# Altium footprint library LIBTP1.PcbLib: 3 footprints
Each footprint in its own frame and in the unit in brackets; x right, y up, seen from the top. Pads: shape width x height; smd on the part's side, far side on the other; paste and mask are expansions set on the pad; w line width, h text height; cw(c..) or ccw(c..) is an arc to the next point about the centre after c.
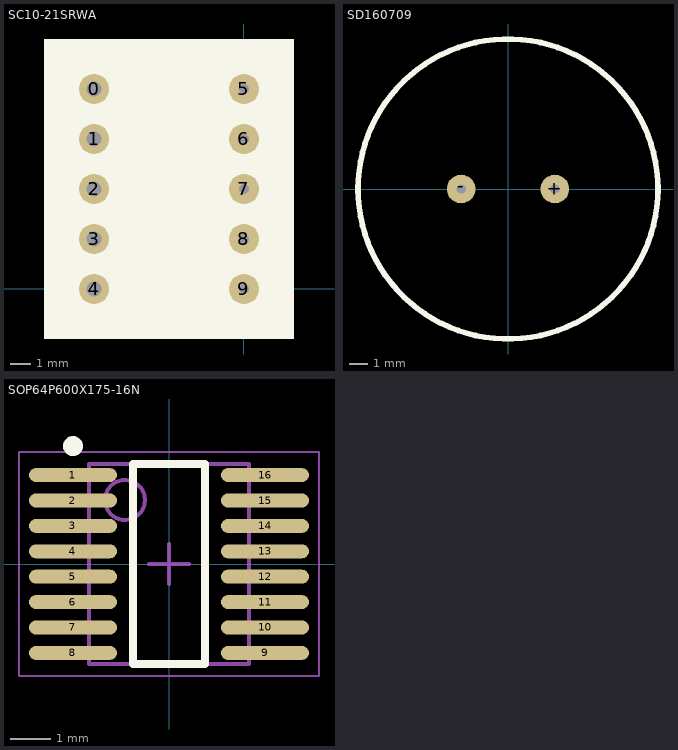
[diagram p0: the footprints below, top view; thin cyan lines are the x and y axes]

## SC10-21SRWA [mil]
pads (10):
  round 60 hole 30: 0(-295.28,393.7) 1(-295.28,295.28) 2(-295.28,196.85) 3(-295.28,98.43) 4(-295.28,0)
  round 60 hole 19.68: 5(0,393.7) 6(0,295.28) 7(0,196.85) 8(0,98.43) 9(0,0)
Top Overlay:
  rectangle: -393.7,-98.43 98.43,492.13

## SD160709 [mm] "Buzzer"
pads (2):
  round 1.524 hole 0.5: +(2.5,0) -(-2.5,0)
Top Overlay:
  circle w0.3: c0,0 r8
3D body: height 7.67, standoff -6.18, extent -8.5,-8 8.529,8

## SOP64P600X175-16N [mm] "SOP, 16-Leads, Body 4,90x3,90mm, Pitch 0,64mm, IPC Medium Density"
height 1.76
pads (16):
  oval 2.2x0.35 smd: 1(-2.4,2.222) 2(-2.4,1.587) 3(-2.4,0.953) 4(-2.4,0.318) 5(-2.4,-0.318) 6(-2.4,-0.953) 7(-2.4,-1.587) 8(-2.4,-2.222) 9(2.4,-2.222) 10(2.4,-1.587) 11(2.4,-0.953) 12(2.4,-0.318) 13(2.4,0.318) 14(2.4,0.953) 15(2.4,1.587) 16(2.4,2.222)
Top Overlay:
  circle w0.25: c-2.4,2.947 r0.125
  lines w0.2: -0.9,-2.5 0.9,-2.5 0.9,2.5 -0.9,2.5 -0.9,-2.5
Mechanical 13:
  circle w0.1: c-1.1,1.6 r0.5
  lines w0.1: -2,-2.5 2,-2.5 2,2.5 -2,2.5 -2,-2.5
Mechanical 15:
  lines w0.05: -3.75,-2.8 3.75,-2.8 3.75,2.8 -3.75,2.8 -3.75,-2.8
  lines w0.1: -0.5,0 0.5,0 ; 0,-0.5 0,0.5
3D body: height 1.76, standoff 0.1, extent -2,-2.5 2,2.5